# EAGLE library part GPS_MODUL_FGPMMOPA6C (library FGPMMOPA6B_GPS_MODUL)
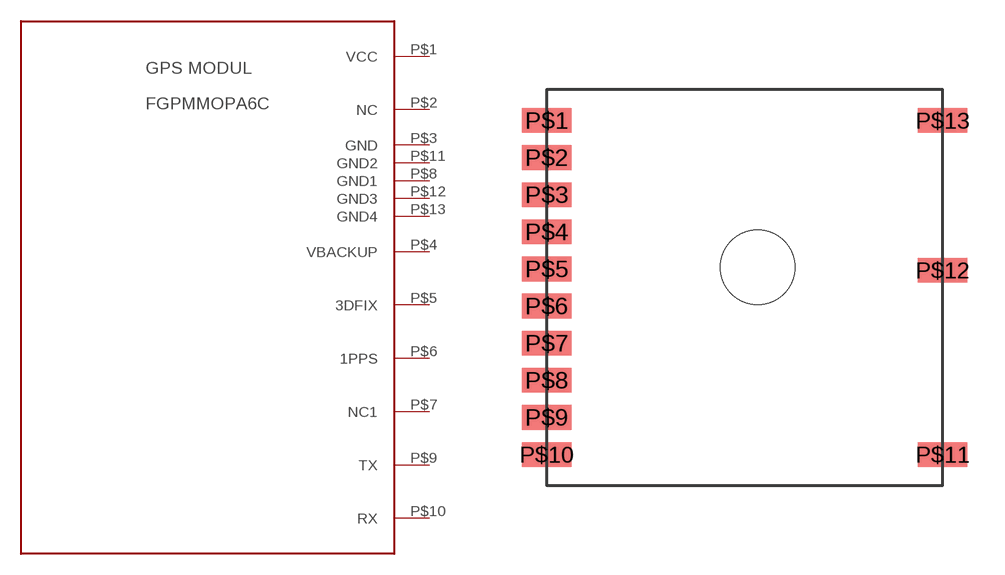
[diagram p1: symbol with the pads of FGPMMOPA6C; footprint FGPMMOPA6C]

Designator prefix -

## GPS_MODUL_FGPMMOPA6C  [FGPMMOPA6C]
P$1  VCC
P$2  NC  nc
P$3  GND
P$4  VBACKUP
P$5  3DFIX
P$6  1PPS
P$7  NC1  nc
P$8  GND1
P$9  TX
P$10  RX
P$11  GND2
P$12  GND3
P$13  GND4

## Footprint FGPMMOPA6C (pad centres in mm)
smd 2 x 1: P$1 -7.62,7.13; P$2 -7.62,5.63; P$3 -7.62,4.13; P$4 -7.62,2.63; P$5 -7.62,1.13; P$6 -7.62,-0.37; P$7 -7.62,-1.87; P$8 -7.62,-3.37; P$9 -7.62,-4.87; P$10 -7.62,-6.37; P$11 8.38,-6.37; P$12 8.38,1.08; P$13 8.38,7.13
hole 3 at 0.9,1.2